# EAGLE library part TPS27081 (library Sensor)
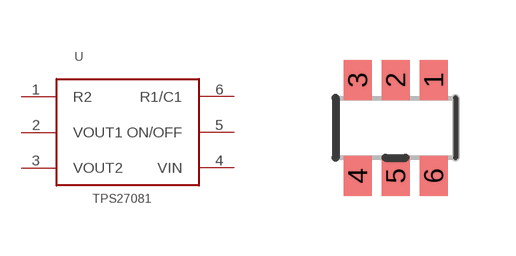
[diagram p0: symbol with the pads of SOT23-6; footprint SOT23-6]

Designator prefix -

## TPS27081A  [SOT23-6]
1  R2
2  VOUT1
3  VOUT2
4  VIN
5  ON/OFF
6  R1/C1

## Footprint SOT23-6 (pad centres in mm)
smd 0.7 x 1: 1 0.95,1.2; 2 0,1.2; 3 -0.95,1.2; 4 -0.95,-1.2; 5 0,-1.2; 6 0.95,-1.2